# EAGLE library part GE28F___L18T85_SCSP80 (library diode-20CJQ030)
Intel StrataFlash® Wireless Memory (L18) 28F640L18, 28F128L18, 28F256L18 Package: SCSP-80 Description: The Intel StrataFlash® wireless memory (L18) device is the latest generation of Intel StrataFlash® memory devices featuring flexible, multiple-partition, dual operation. It provides high performance synchronous-burst read mode and asynchronous read mode using 1.8 V lowvoltage, multi-level cell (MLC) technology. High performance Read-While-Write/Erase -85 ns initial access -54 MHz with zero wait state, 14 ns clock-todata output synchronous-burst mode -25 ns asynchronous-page mode -4-, 8-, 16-, and continuous-word burst mode -Burst suspend -Programmable WAIT configuration -Buffered Enhanced Factory Programming (Buffered EFP): 5 µs/byte (Typ) -1.8 V low-power buffered and non-buffered programming at 7 µs/byte (Typ) Architecture -Asymmetrically-blocked architecture -Multiple 8-Mbit partitions: 64Mb and 128Mb devices -Multiple 16-Mbit partitions: 256Mb devices -Four 16-Kword parameter blocks: top or bottom configurations -64-Kword main blocks -Dual-operation: Read-While-Write (RWW) or Read-While-Erase (RWE) -Status register for partition and device status Power -1.7 V - 2.0 V VCC operation -I/O voltage: 1.35 V - 2.0 V, 1.7 V - 2.0 V -Standby current: 25 µA (Typ) -4-Word synchronous read current: 17 mA (Typ) at 54 MHz -Automatic Power Savings (APS) mode Please send any comments to: messi@users.sourceforge.net
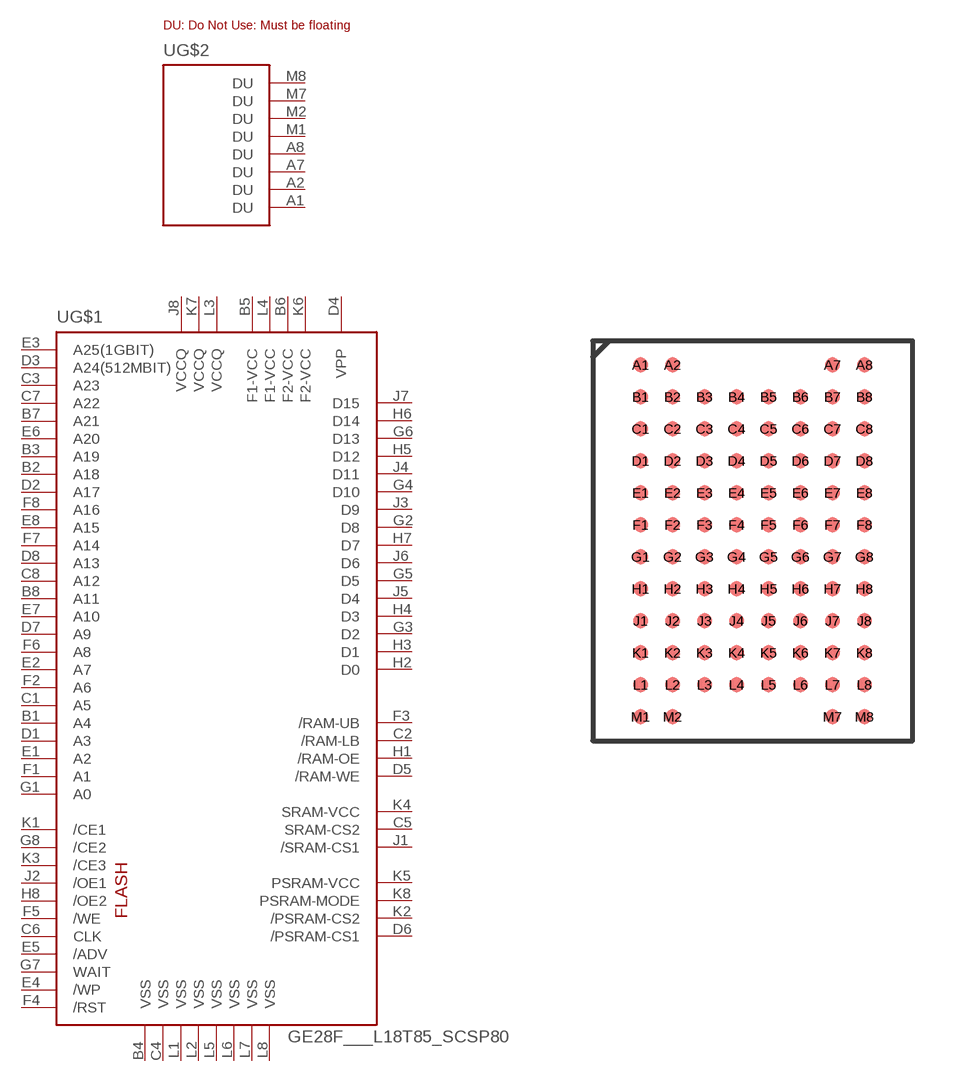
[diagram p15: symbol with the pads of 88SCSP; footprint 88SCSP]

Designator prefix U; gates G$2=GE28F_SCSP_DU G$1=GE28F_SCSP

## GE28F___L18T85_SCSP80  [88SCSP]
A1  G$2:DU
A2  G$2:DU
A7  G$2:DU
A8  G$2:DU
B1  G$1:A4  in
B2  G$1:A18  in
B3  G$1:A19  in
B4  G$1:VSS  pwr
B5  G$1:F1-VCC  pwr
B6  G$1:F2-VCC  nc
B7  G$1:A21  in
B8  G$1:A11  in
C1  G$1:A5  in
C2  G$1:/RAM-LB  nc
C3  G$1:A23  in
C4  G$1:VSS  pwr
C5  G$1:SRAM-CS2  in
C6  G$1:CLK  in
C7  G$1:A22  in
C8  G$1:A12  in
D1  G$1:A3  in
D2  G$1:A17  in
D3  G$1:A24(512MBIT)  in
D4  G$1:VPP  pwr
D5  G$1:/RAM-WE  nc
D6  G$1:/PSRAM-CS1  nc
D7  G$1:A9  in
D8  G$1:A13  in
E1  G$1:A2  in
E2  G$1:A7  in
E3  G$1:A25(1GBIT)  in
E4  G$1:/WP  in
E5  G$1:/ADV  in
E6  G$1:A20  in
E7  G$1:A10  in
E8  G$1:A15  in
F1  G$1:A1  in
F2  G$1:A6  in
F3  G$1:/RAM-UB  nc
F4  G$1:/RST  in
F5  G$1:/WE  in
F6  G$1:A8  in
F7  G$1:A14  in
F8  G$1:A16  in
G1  G$1:A0  in
G2  G$1:D8
G3  G$1:D2
G4  G$1:D10
G5  G$1:D5
G6  G$1:D13
G7  G$1:WAIT  out
G8  G$1:/CE2  in
H1  G$1:/RAM-OE  nc
H2  G$1:D0
H3  G$1:D1
H4  G$1:D3
H5  G$1:D12
H6  G$1:D14
H7  G$1:D7
H8  G$1:/OE2  in
J1  G$1:/SRAM-CS1  in
J2  G$1:/OE1  in
J3  G$1:D9
J4  G$1:D11
J5  G$1:D4
J6  G$1:D6
J7  G$1:D15
J8  G$1:VCCQ  pwr
K1  G$1:/CE1  in
K2  G$1:/PSRAM-CS2  nc
K3  G$1:/CE3  nc
K4  G$1:SRAM-VCC  nc
K5  G$1:PSRAM-VCC  nc
K6  G$1:F2-VCC  nc
K7  G$1:VCCQ  pwr
K8  G$1:PSRAM-MODE  nc
L1  G$1:VSS  pwr
L2  G$1:VSS  pwr
L3  G$1:VCCQ  pwr
L4  G$1:F1-VCC  pwr
L5  G$1:VSS  pwr
L6  G$1:VSS  pwr
L7  G$1:VSS  pwr
L8  G$1:VSS  pwr
M1  G$2:DU
M2  G$2:DU
M7  G$2:DU
M8  G$2:DU

## Footprint 88SCSP (pad centres in mm)
128-Mbit, 88-ball (80-active ball) Stacked Chip Scale Package (SCSP) pitch: 0.8 mm balldiameter: 0.375 Please send any comments to: messi@users.sourceforge.net
smd 0.375 x 0.375: A1 -2.8,4.4; A2 -2,4.4; A7 2,4.4; A8 2.8,4.4; B1 -2.8,3.6; B2 -2,3.6; B3 -1.2,3.6; B4 -0.4,3.6; B5 0.4,3.6; B6 1.2,3.6; B7 2,3.6; B8 2.8,3.6; C1 -2.8,2.8; C2 -2,2.8; C3 -1.2,2.8; C4 -0.4,2.8; C5 0.4,2.8; C6 1.2,2.8; C7 2,2.8; C8 2.8,2.8; D1 -2.8,2; D2 -2,2; D3 -1.2,2; D4 -0.4,2; D5 0.4,2; D6 1.2,2; D7 2,2; D8 2.8,2; E1 -2.8,1.2; E2 -2,1.2; E3 -1.2,1.2; E4 -0.4,1.2; E5 0.4,1.2; E6 1.2,1.2; E7 2,1.2; E8 2.8,1.2; F1 -2.8,0.4; F2 -2,0.4; F3 -1.2,0.4; F4 -0.4,0.4; F5 0.4,0.4; F6 1.2,0.4; F7 2,0.4; F8 2.8,0.4; G1 -2.8,-0.4; G2 -2,-0.4; G3 -1.2,-0.4; G4 -0.4,-0.4; G5 0.4,-0.4; G6 1.2,-0.4; G7 2,-0.4; G8 2.8,-0.4; H1 -2.8,-1.2; H2 -2,-1.2; H3 -1.2,-1.2; H4 -0.4,-1.2; H5 0.4,-1.2; H6 1.2,-1.2; H7 2,-1.2; H8 2.8,-1.2; J1 -2.8,-2; J2 -2,-2; J3 -1.2,-2; J4 -0.4,-2; J5 0.4,-2; J6 1.2,-2; J7 2,-2; J8 2.8,-2; K1 -2.8,-2.8; K2 -2,-2.8; K3 -1.2,-2.8; K4 -0.4,-2.8; K5 0.4,-2.8; K6 1.2,-2.8; K7 2,-2.8; K8 2.8,-2.8; L1 -2.8,-3.6; L2 -2,-3.6; L3 -1.2,-3.6; L4 -0.4,-3.6; L5 0.4,-3.6; L6 1.2,-3.6; L7 2,-3.6; L8 2.8,-3.6; M1 -2.8,-4.4; M2 -2,-4.4; M7 2,-4.4; M8 2.8,-4.4